# Altium schematic symbol library mos_drv.SchLib: 2 symbols
Pins are listed as number, name and electrical type; pins without a type are passive.

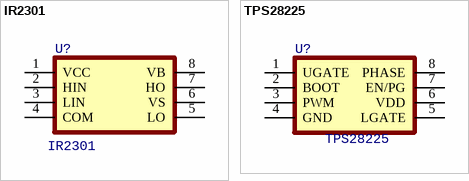
[diagram p0: symbols IR2301 to TPS28225]

## IR2301
designator U?
MOSFET Driver
footprint _SOP_E150_8
pins: 1 VCC, 2 HIN, 3 LIN, 4 COM, 5 LO, 6 VS, 7 HO, 8 VB

## TPS28225
designator U?
MOSFET Driver
footprint _SOP_E150_8
pins: 1 UGATE, 2 BOOT, 3 PWM, 4 GND, 5 LGATE, 6 VDD, 7 EN/PG, 8 PHASE